# EAGLE library part MOD_NS73M (library akita)
Niigata Seimitsu, NS73M, FM transmitter
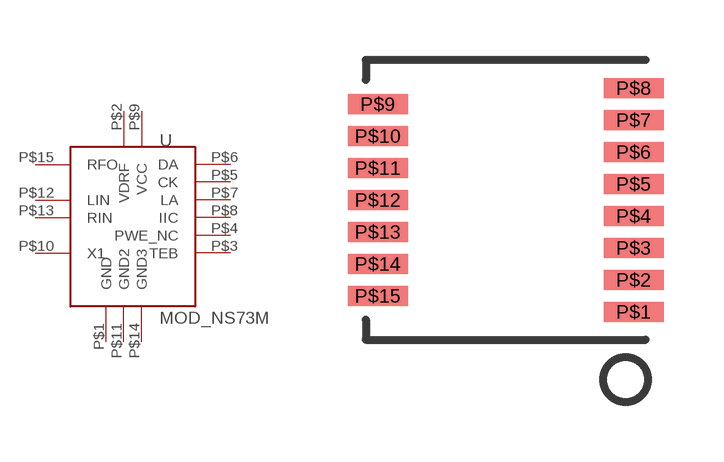
[diagram p183: symbol with the pads of MOD_NS73M; footprint MOD_NS73M]

Designator prefix U

## MOD_NS73M  [MOD_NS73M]
P$1  GND
P$2  VDRF
P$3  TEB
P$4  PWE_NC
P$5  CK
P$6  DA
P$7  LA
P$8  IIC
P$9  VCC
P$10  X1
P$11  GND2
P$12  LIN
P$13  RIN
P$14  GND3
P$15  RFO

## Footprint MOD_NS73M (pad centres in mm)
Niigata Seimitsu, NS73M, FM transmitter
smd 1.5 x 0.5: P$1 3.2,-2.8; P$2 3.2,-2; P$3 3.2,-1.2; P$4 3.2,-0.4; P$5 3.2,0.4; P$6 3.2,1.2; P$7 3.2,2; P$8 3.2,2.8; P$9 -3.2,2.4; P$10 -3.2,1.6; P$11 -3.2,0.8; P$12 -3.2,0; P$13 -3.2,-0.8; P$14 -3.2,-1.6; P$15 -3.2,-2.4